# EAGLE library part FTSH-104-01-LM-D (library FTSH-104-01-LM-D)
Check availability <https://pricing.snapeda.com/parts/FTSH-104-01-LM-D/Samtec/view-part?ref=eda>
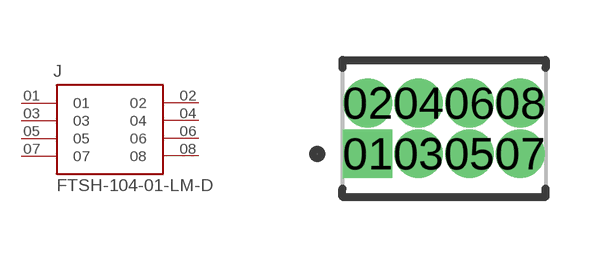
[diagram p0: symbol with the pads of SAMTEC_FTSH-104-01-LM-D; footprint SAMTEC_FTSH-104-01-LM-D]

Designator prefix J

## FTSH-104-01-LM-D (Availability: In Stock; Check_prices: https://www.snapeda.com/parts/FTSH-104-01-LM-D/Samtec/view-part/?ref=eda; Description: Connector Header Surface Mount 8 position 0.050 (1.27mm); MF: Samtec; MP: FTSH-104-01-LM-D; Package: None; Price: None; SnapEDA_Link: https://www.snapeda.com/parts/FTSH-104-01-LM-D/Samtec/view-part/?ref=snap)  [SAMTEC_FTSH-104-01-LM-D]
01  01  pas
02  02  pas
03  03  pas
04  04  pas
05  05  pas
06  06  pas
07  07  pas
08  08  pas

## Footprint SAMTEC_FTSH-104-01-LM-D (pad centres in mm)
drill 0.71 pad 1.06 square: 01 0,0
drill 0.71 pad 1.06: 02 0,1.27; 03 1.27,0; 04 1.27,1.27; 05 2.54,0; 06 2.54,1.27; 07 3.81,0; 08 3.81,1.27